# EAGLE library part ATMEL-ISP (library UPRA_misc)
PIN HEADER
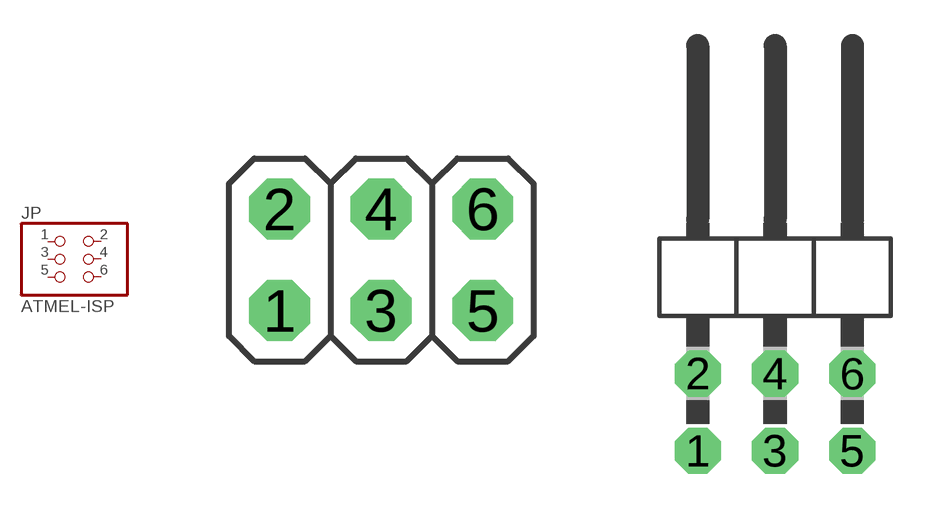
[diagram p5: symbol with the pads of 2X03; footprints 2X03, 2X03/90]

Designator prefix JP

## ATMEL-ISP  [2X03]
1  1  pas
2  2  pas
3  3  pas
4  4  pas
5  5  pas
6  6  pas

## ATMEL-ISP/90  [2X03/90]
Pads as for 2X03

## ATMEL-ISP/EDGE  [2X03/EDGE]
Pads as for 2X03

## Footprint 2X03 (pad centres in mm)
PIN HEADER
drill 1.016 octagon: 1 -2.54,-1.27; 2 -2.54,1.27; 3 0,-1.27; 4 0,1.27; 5 2.54,-1.27; 6 2.54,1.27

## Footprint 2X03/90 (pad centres in mm)
PIN HEADER
drill 1.016 octagon: 1 -2.54,-6.35; 2 -2.54,-3.81; 3 0,-6.35; 4 0,-3.81; 5 2.54,-6.35; 6 2.54,-3.81

## Footprint 2X03/EDGE (pad centres in mm)
PIN HEADER
smd 1.93 x 3.81: 1 -2.54,-3.81; 3 0,-3.81; 5 2.54,-3.81
smd 1.93 x 3.81 bottom: 2 -2.54,-3.81; 4 0,-3.81; 6 2.54,-3.81